# EAGLE library part IRS2092 (library ICs)
Integrated analogue input class D amplifier solution.
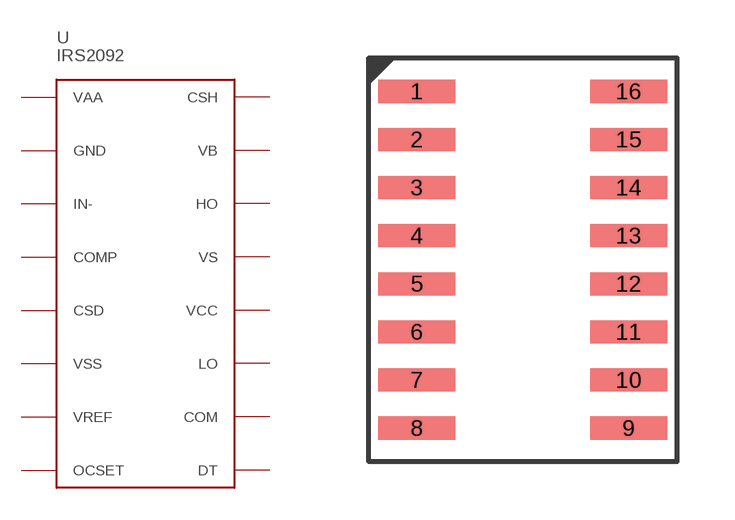
[diagram p10: symbol with the pads of SO16; footprint SO16]

Designator prefix U

## IRS2092SPBF (FARNELL: 1506807)  [SO16]
1  VAA
2  GND
3  IN-
4  COMP
5  CSD
6  VSS
7  VREF
8  OCSET
9  DT
10  COM
11  LO
12  VCC
13  VS
14  HO
15  VB
16  CSH

## Footprint SO16 (pad centres in mm)
smd 2 x 0.6: 1 -2.75,4.375; 2 -2.75,3.125; 3 -2.75,1.875; 4 -2.75,0.625; 5 -2.75,-0.625; 6 -2.75,-1.875; 7 -2.75,-3.125; 8 -2.75,-4.375; 9 2.75,-4.375; 10 2.75,-3.125; 11 2.75,-1.875; 12 2.75,-0.625; 13 2.75,0.625; 14 2.75,1.875; 15 2.75,3.125; 16 2.75,4.375